# EAGLE library part CONNECTOR (library pixel_masterlib)
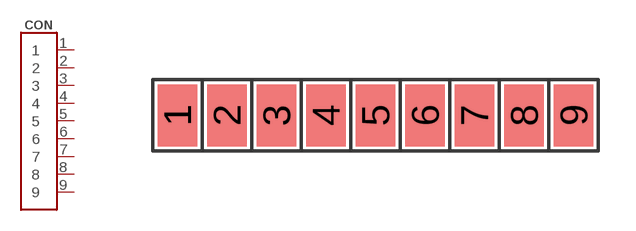
[diagram p18: symbol with the pads of CONNECTOR; footprint CONNECTOR]

Designator prefix CON

## CONNECTOR (BOM: EXCLUDE)  [CONNECTOR]
1  1
2  2
3  3
4  4
5  5
6  6
7  7
8  8
9  9

## Footprint CONNECTOR (pad centres in mm)
smd 1.6 x 2.5: 1 -8,0; 2 -6,0; 3 -4,0; 4 -2,0; 5 0,0; 6 2,0; 7 4,0; 8 6,0; 9 8,0